# Altium schematic symbol library SW-SPST-PB.SchLib: 1 symbol
Pins are listed as number, name and electrical type; pins without a type are passive.

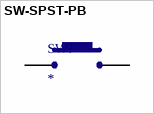
[diagram p0: symbol SW-SPST-PB]

## SW-SPST-PB
designator SW?
pins: 1, 2